# Altium schematic symbol library Optocoupler.SchLib: 2 symbols
Pins are listed as number, name and electrical type; pins without a type are passive.

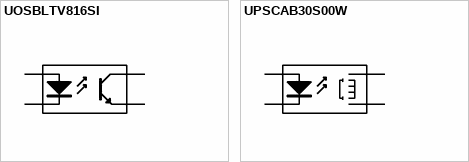
[diagram p0: symbols UOSBLTV816SI to UPSCAB30S00W]

## UOSBLTV816SI
designator U?, comment LTV-816S-TA1-C
Phototransistor Optocoupler LTV-816S-TA1-C Viso 5000Vrms; Manufacturer: LITE-ON ELECTRONICS; TemperatureRange: -30°C to 100°C; MountType: SMT; PackageDescription: DIP-4-SMD-OPTO; 4 Leads; Row Spacing 9mm; Pitch 2.54 mm; PackageReference: LTV-816S; Published: 1-Jun-2017; Publisher: GreenBox; VenderID: LTV-816S-TA1-C
footprint DIP-4-SMD-OPTO (DIP-4-SMD-OPTO; 4 Leads; Row Spacing 9mm; Pitch 2.54 mm)
pins: 1 A "Anode", 2 K "Cathode", 3 E "Emitter", 4 C "Collector"

## UPSCAB30S00W
designator U?, comment AB30S
Solid State Optronics Relay AB30S 100mA 400V 24Ω; Manufacturer: TOWARD; TemperatureRange: -40°C to 85°C; MountType: SMT; PackageDescription: SOP-4 Pitch 2.54mm; PackageReference: TOWARD-SOP-4; Published: 1-Jun-2017; Publisher: GreenBox; VenderID: AB30S
footprint TOWARD-SOP-4 (SOP-4 Pitch 2.54mm)
pins: 1 A "Anode", 2 K "Cathode", 3 E "Emitter", 4 C "Collector"